# EAGLE library part 233-203 (library con-wago_233)
Serie 233, Klemmenleiste für Leiterplatten; 2 Lötstifte/Pol; 3-polig; Rastermaß 2,5 mm / 0.098 in; mit Betätigungsdrücker / Series 233, PCB terminal strip; 2 solder pins/pole; 3-pole; Pin spacing 2.5 mm / 0.098 in; with push-button Polzahl / Pole No.: 3 Rastermaß / Pitch: 2.5 - 2.5 mm Bemessungsspannung / Rated Voltage: 160 V Nennstrom / Nominal Current: 6 A Leiterquerschnitt / Conductor Size: 0.08 - 0.5 mm2 Anschlusstechnik / Connection Technology: CAGE CLAMP® Lötstiftlänge: / Solder Pin Length: 4 mm Leitereinführung (zur Platine) / Conductor entry angle (to PCB): 30 ° Farbe / Color: grau / gray Stand: 01.01.2015. Die jeweils aktuellen Daten zu diesem Artikel finden Sie in unserem Produktkatalog, den Sie unter www.wago.com einsehen können. As of: 01/01/2015. Please find the newest data for this article in our product catalogue, which can be viewed under www.wago.com.
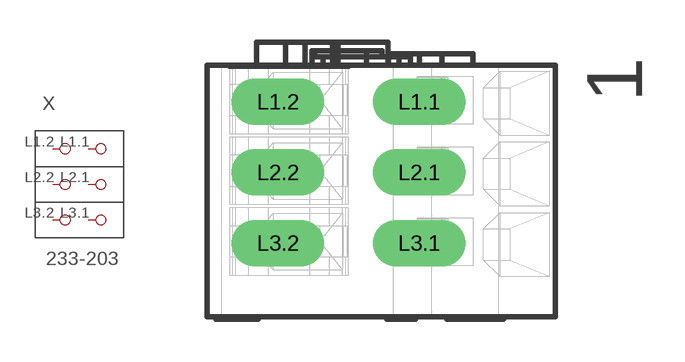
[diagram p11: symbol with the pads of P-233-203; footprint P-233-203]

Designator prefix X

## 233-203  [P-233-203]
L1.1  P1.1
L1.2  P1.2
L2.1  P2.1
L2.2  P2.2
L3.1  P3.1
L3.2  P3.2

## Footprint P-233-203 (pad centres in mm)
drill 1.1 long: L1.1 0,-1.3; L1.2 -5,-1.3; L2.1 0,-3.8; L2.2 -5,-3.8; L3.1 0,-6.3; L3.2 -5,-6.3